# Altium schematic symbol library INA333模块.SchLib: 7 symbols
Pins are listed as number, name and electrical type; pins without a type are passive.

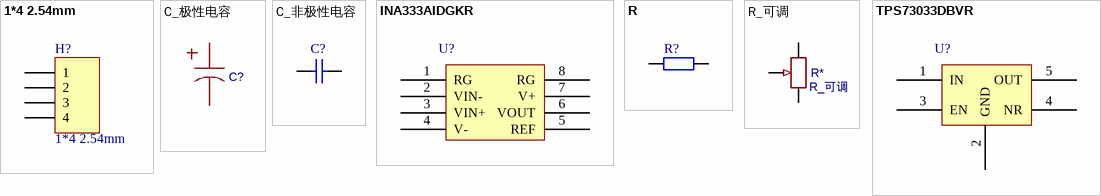
[diagram p0: symbols 1*4 2.54mm to TPS73033DBVR]

## 1*4 2.54mm
designator H?
LatestRevisionDate: 17-Jul-2002; LatestRevisionNote: Re-released for DXP Platform.; Publisher: Altium Limited
footprint HDR1X4 (Connector; Header; 4 Position)
pins: 1, 2, 3, 4

## C_极性电容
designator C?
BOM_Manufacturer: Lelon; BOM_Manufacturer Part: VE-331M1E0810-TRO; nameAlias: Capacitance; Contributor: LCSC; BOM_Supplier: LCSC; BOM_Supplier Part: C249523; spicePre: C; spiceSymbolName: VE-331M1E0810-TRO
footprint CAP-SMD_BD8.0-L8.3-W8.3-FD
footprint CAP-TH_BD10.0-P5.00-D1.0-FD
pins: 1, 2

## C_非极性电容
designator C?
ComponentLink1Description: 供应商链接; ComponentLink1URL: http://www.szlcsc.com/product/details_8509.html; Package: 0805; Supplier: LC; SuppliersPartNumber: C8031
footprint 0603_C
footprint 0402_C
footprint 0805_C
footprint 1210_C
pins: 1, 2

## INA333AIDGKR
designator U?
MSOP-8
footprint MSOP-8
pins: 1 RG, 2 VIN-, 3 VIN+, 4 V-, 5 REF, 6 VOUT, 7 V+, 8 RG

## R
designator R?
贴片电阻; ComponentLink1Description: 供应商链接; ComponentLink1URL: http://www.szlcsc.com/product/details_18202.html; Package: 0805; Supplier: LC; SuppliersPartNumber: C17514
footprint 0603_R
footprint 0805_R
footprint RES-TH_BD2.2-L6.5-P10.50-D0.6
pins: 1, 2

## R_可调
designator R*
BOM_Manufacturer: Chengdu Guosheng Tech; BOM_Manufacturer Part: 3296W-1-100; Resistance(Ohms): 10; nameAlias: Resistance (Ohms); Contributor: LCSC; BOM_Supplier: LCSC; BOM_Supplier Part: C118900; spicePre: R; spiceSymbolName: 3296W-1-100
footprint RES-ADJ-TH_3P-L9.5-W4.9-P2.50-L_3296W
pins: 1, 2, 3

## TPS73033DBVR
designator U?
SOT23-5
footprint SOT-23-5
pins: 1 IN, 2 GND, 3 EN, 4 NR, 5 OUT